# Altium schematic symbol library SCH - ARM CORTEX - STM STM8L051F3Px.SchLib: 1 symbol
Pins are listed as number, name and electrical type; pins without a type are passive.

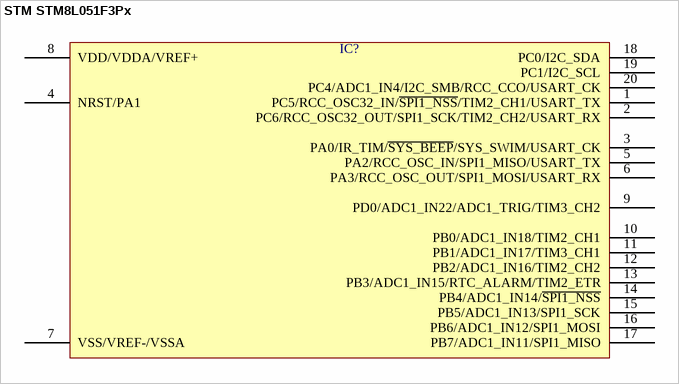
[diagram p0: symbol STM STM8L051F3Px]

## STM STM8L051F3Px
designator IC?  (value not drawn)
pins: 1 PC5/RCC_OSC32_IN/~{SPI1_NSS}/TIM2_CH1/USART_TX, 2 PC6/RCC_OSC32_OUT/SPI1_SCK/TIM2_CH2/USART_RX, 3 PA0/IR_TIM/~{SYS_BEEP}/SYS_SWIM/USART_CK, 4 NRST/PA1, 5 PA2/RCC_OSC_IN/SPI1_MISO/USART_TX, 6 PA3/RCC_OSC_OUT/SPI1_MOSI/USART_RX, 7 VSS/VREF-/VSSA, 8 VDD/VDDA/VREF+, 9 PD0/ADC1_IN22/ADC1_TRIG/TIM3_CH2, 10 PB0/ADC1_IN18/TIM2_CH1, 11 PB1/ADC1_IN17/TIM3_CH1, 12 PB2/ADC1_IN16/TIM2_CH2, 13 PB3/ADC1_IN15/RTC_ALARM/TIM2_ETR, 14 PB4/ADC1_IN14/~{SPI1_NSS}, 15 PB5/ADC1_IN13/SPI1_SCK, 16 PB6/ADC1_IN12/SPI1_MOSI, 17 PB7/ADC1_IN11/SPI1_MISO, 18 PC0/I2C_SDA, 19 PC1/I2C_SCL, 20 PC4/ADC1_IN4/I2C_SMB/RCC_CCO/USART_CK